# Altium footprint library PFC_Interleaved_V8.1.PcbLib: 68 footprints (part 3 of 5)
Each footprint in its own frame and in the unit in brackets; x right, y up, seen from the top. Pads: shape width x height; smd on the part's side, far side on the other; paste and mask are expansions set on the pad; w line width, h text height; cw(c..) or ccw(c..) is an arc to the next point about the centre after c.
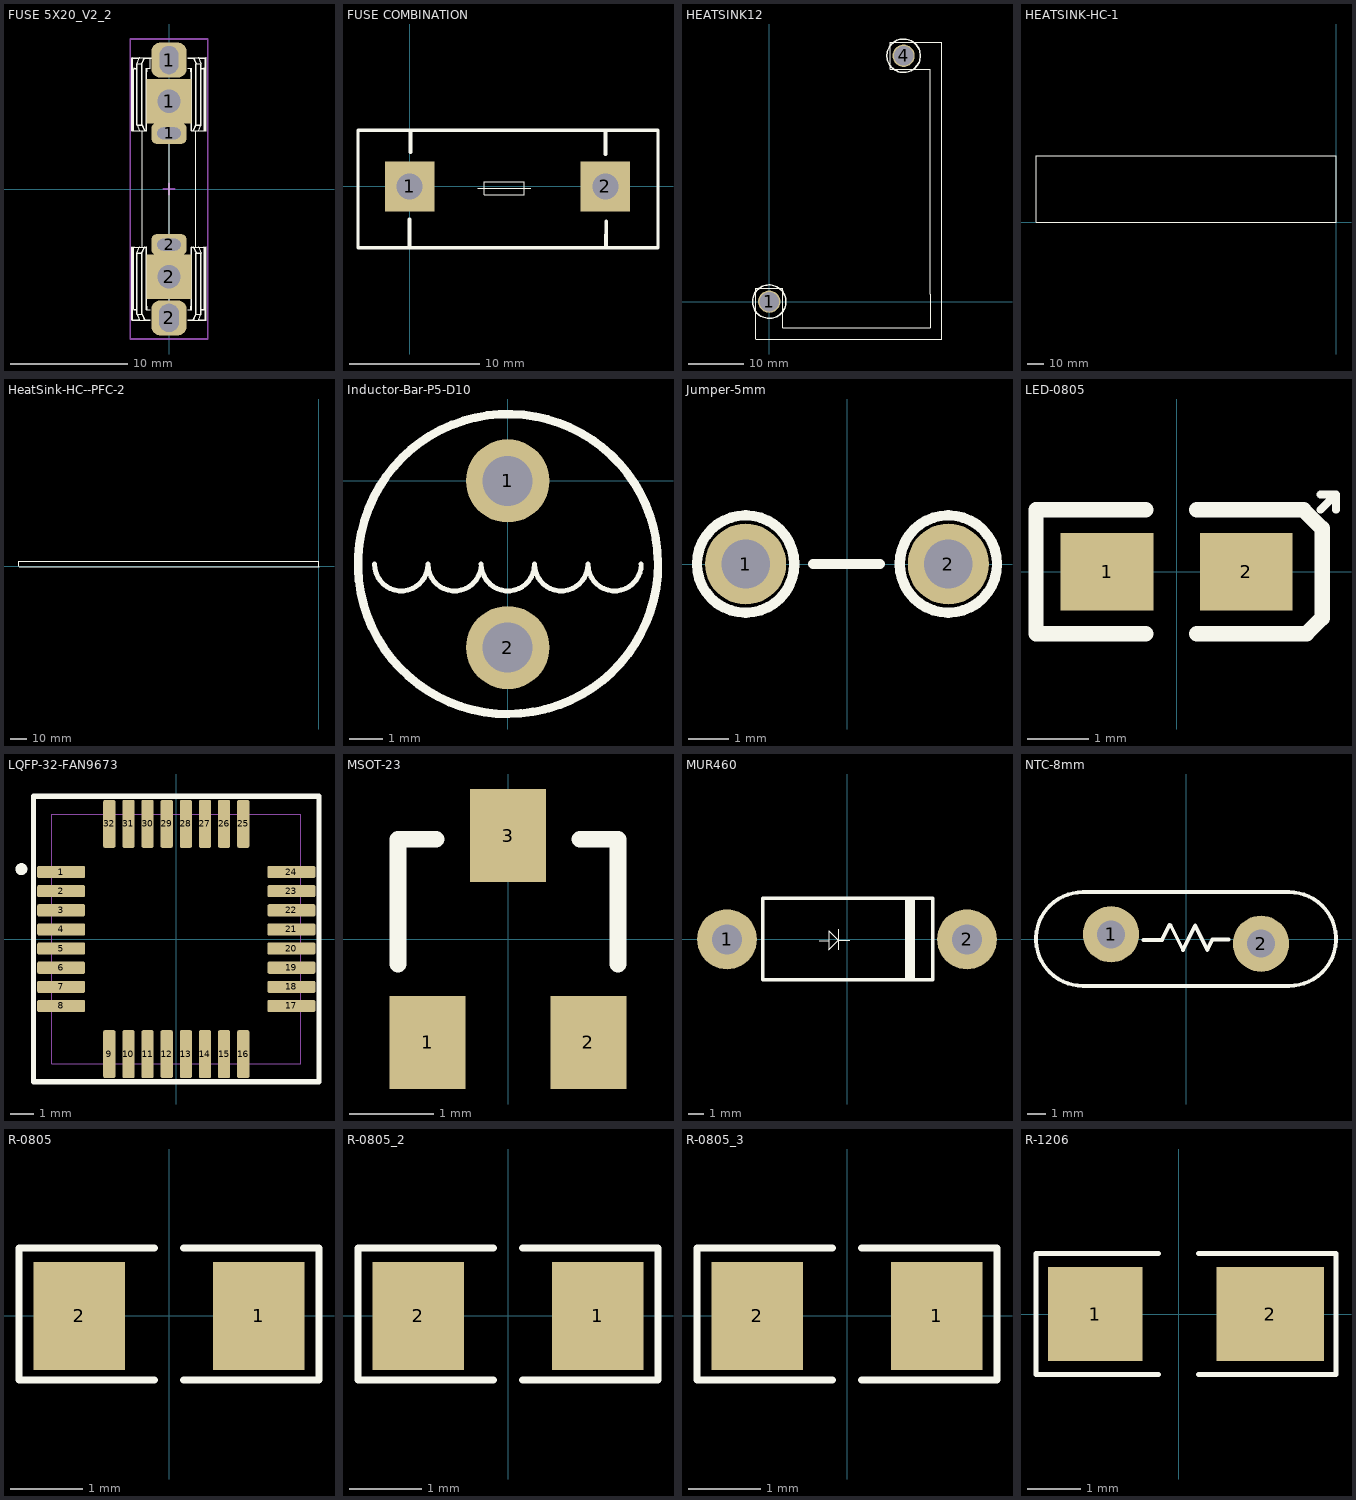
[diagram p2: the footprints below, top view; thin cyan lines are the x and y axes]

## FUSE 5X20_V2_2 [mm]
pads (6):
  rrect50% 3x1.8 hole 1 slot 2 at 0 deg: 1(0,4.75) 2(0,-4.75)
  rect 3.81x3.81 hole 2: 1(0,7.5) 2(0,-7.5)
  rrect50% 3x3 hole 1.6 slot 2.4 at 90 deg: 1(0,11)
  rrect50% 3x3 hole 1.7 slot 2.4 at 90 deg: 2(0,-11)
Top Overlay:
  drawing of 355 lines, arcs and shapes, not listed
Mechanical 15:
  lines w0.15: -0.5,0 0.5,0 ; 0,-0.5 0,0.5 ; -3.3,-12.8 -3.3,12.8 3.3,12.8 3.3,-12.8 -3.3,-12.8
3D body "User Library-Clips FC-201 with fuse 5x20.STEP": height 8.63, standoff -3.56, extent -3.173,-11.689 3.174,11.689

## FUSE COMBINATION [mm]
pads (2):
  rect 3.81x3.81 hole 2: 1(0,0) 2(15,0)
Top Overlay:
  lines w0.076: 5.217,-0.139 7.249,-0.139 9.281,-0.139 ; 5.725,-0.647 5.725,0.369 8.773,0.369 8.773,-0.647 5.725,-0.647
  lines w0.254: -3.962,-4.699 -3.962,4.301 19.038,4.301 19.038,-4.699 -3.962,-4.699
  lines w0.3: -0.015,-4.572 -0.015,-2.526 ; 0.06,2.629 0.06,4.191 ; 15.019,2.478 15.019,4.191 ; 15.065,-4.572 15.072,-2.704
3D body "User Library-Fuse Block-1.step": height 11.99, standoff -3.96, extent -4.663,-4.673 19.547,4.317

## HEATSINK12 [mm]
pads (2):
  round 4 hole 3.5: 1(0,0) 4(24.079,44.069)
Top Overlay:
  circle w0.254: c24.079,44.069 r3
  circle w0.254: c0,0 r3
  lines w0.1: -2.413,-6.7 30.875,-6.7 30.875,46.469 21.679,46.469 21.679,41.656 28.88,41.656 ; -2.413,-6.68 -2.413,2.4 2.4,2.4 2.4,-4.7 11.654,-4.7 28.88,-4.7 ; 28.875,41.631 28.875,1.3 28.88,-4.699
3D body "HeatSink-1.stp": height 32, standoff 0, extent -2.936,-6.908 31.064,47.092

## HEATSINK-HC-1 [mm]
Top Overlay:
  lines w0.1: -180,40.15 -180,0 0,0 0,40.15 ; -179.984,40.161 0,40.161
3D body "HeatSink-NSC-HC-18mm-2.step": height 120, standoff -0.05, extent -180,0 0,39.979

## HeatSink-HC--PFC-2 [mm]
Top Overlay:
  lines w0.1: -180,-0.007 0,-0.007 ; -180,0 -180,3 0,3 0,0
3D body "Heatsink3mm-PFC-Lib.step": height 45, standoff -5, extent -179.985,0 0.015,3.023

## Inductor-Bar-P5-D10 [mm]
pads (2):
  round 2.5 hole 1.5: 1(0,0) 2(0,-5)
Top Overlay:
  lines w0.15: -3.995,-2.5 ccw(c-3.195,-2.5) -2.395,-2.5 ccw(c-1.595,-2.5) -0.795,-2.5 ccw(c0.005,-2.5) 0.805,-2.5 ccw(c1.605,-2.5) 2.405,-2.5 ccw(c3.205,-2.5) 4.005,-2.5
  lines w0.254: 1.111,-6.856 cw(c0.008,-2.493) 1.227,-6.825
3D body: height 10, standoff 0, extent -4.063,-6.535 3.937,1.455

## Jumper-5mm [mm]
pads (2):
  round 2 hole 1.2: 1(-2.5,0) 2(2.5,0)
Top Overlay:
  circle w0.254: c2.5,0 r1.2
  circle w0.254: c-2.5,0 r1.2
  lines w0.254: -0.838,0 0.813,0
3D body: height 0.2, standoff -0.2, extent -2.5,-0.178 2.5,0.221

## LED-0805 [mil]
pads (2):
  rect 60x50 smd: 1(-45,0) 2(45,0)
Top Overlay:
  lines w5: 93,40 103,50 ; 93,50 103,50 ; 103,40 103,50
  lines w10: -20,-40 -91,-40 -91,40 -20,40 ; 13,-40 84,-40 94,-30 94,28 82,40 13,40
3D body "SW3dPS-led805.STEP": height 43.31, standoff -0.5, extent -41,-26 39,24

## LQFP-32-FAN9673 [mm]
pads (32):
  rrect25% 2x0.508 smd: 1(-4.815,2.8) 2(-4.815,2) 3(-4.815,1.2) 4(-4.815,0.4) 5(-4.815,-0.4) 6(-4.815,-1.2) 7(-4.815,-2) 8(-4.815,-2.8) 17(4.815,-2.8) 18(4.815,-2) 19(4.815,-1.2) 20(4.815,-0.4) 21(4.815,0.4) 22(4.815,1.2) 23(4.815,2) 24(4.815,2.8)
  rrect25% 0.508x2 smd: 9(-2.8,-4.815) 10(-2,-4.815) 11(-1.2,-4.815) 12(-0.4,-4.815) 13(0.4,-4.815) 14(1.2,-4.815) 15(2,-4.815) 16(2.8,-4.815) 25(2.8,4.815) 26(2,4.815) 27(1.2,4.815) 28(0.4,4.815) 29(-0.4,4.815) 30(-1.2,4.815) 31(-2,4.815) 32(-2.8,4.815)
Top Overlay:
  circle w0.3: c-6.477,2.921 r0.1
  lines w0.22: -5.969,-5.969 -5.969,5.969 5.969,5.969 5.969,-5.969 -5.969,-5.969
Mechanical 15:
  lines w0.05: -5.21,-5.21 5.21,-5.21 5.21,5.21 -5.21,5.21 -5.21,-5.21
3D body "TQFP-32.STEP": height 1.1, standoff 0, extent -4.5,-4.5 4.5,4.5

## MSOT-23 [mm]
pads (3):
  rect 0.9x1.1 smd: 1(-0.95,-1.223) 2(0.95,-1.223) 3(0,1.223)
Top Overlay:
  lines w0.2: -1.3,-0.297 -1.3,1.178 -0.85,1.178 ; 0.85,1.178 1.3,1.178 1.3,-0.297
3D body "SW3dPS-SOT-23.STEP": height 0.98, standoff -0.01, extent -1.448,-1.267 1.448,1.153

## MUR460 [mm]
pads (2):
  round 4 hole 2: 1(-8,0) 2(8,0)
Top Overlay:
  lines w0.08: -1.856,-0.076 -1.221,-0.076 ; -0.561,-0.686 -0.561,0.686 ; 0.176,-0.051 -0.586,-0.051 ; -0.586,-0.051 -1.221,0.584 -1.221,-0.686 -0.586,-0.051
  lines w0.254: 3.978,-2.692 3.978,2.743 ; 4.156,-2.667 4.156,2.616 ; 4.41,-2.692 4.41,2.743 ; -5.613,-2.692 -5.613,2.743 5.715,2.743 5.715,-2.692 -5.613,-2.692
3D body "User Library-1N540X.STEP": height 7.56, standoff 1.1, extent -7.674,-2.489 7.772,2.615

## NTC-8mm [mm]
pads (2):
  round 3 hole 1.5: 1(-4,0.25) 2(4,-0.25)
Top Overlay:
  lines w0.2: -2.286,-0.051 -1.283,-0.051 -0.876,0.762 ; -0.826,0.737 -0.16,-0.594 ; -0.165,-0.584 0.49,0.726 ; 0.495,0.711 1.14,-0.579 ; 1.13,-0.584 1.407,-0.03 ; 1.407,-0.025 2.286,-0.025 ; -5.5,-2.5 cw(c-5.5,0) -5.5,2.5 5.5,2.5 cw(c5.5,0) 5.5,-2.5 -5.5,-2.5
3D body: height 3, standoff 0, extent 3.5,0 4,0.5
3D body: height 3, standoff 0, extent -3.75,-0.5 -3.25,0
3D body: height 13.46, standoff 0.76, extent -6.423,-0.94 6.27,1.06

## R-0805 [mm]
pads (2):
  rect 1.27x1.5 smd: 1(1.245,0) 2(-1.245,0)
Top Overlay:
  lines w0.1: -0.203,-0.889 -2.082,-0.889 -2.082,0.94 -0.203,0.94 ; 0.203,-0.889 2.082,-0.889 2.082,0.94 0.203,0.94
3D body "0805.STEP": height 0.6, standoff 0, extent -1.016,-0.635 1.016,0.635

## R-0805_2 [mm]
pads (2):
  rect 1.27x1.5 smd: 1(1.245,0) 2(-1.245,0)
Top Overlay:
  lines w0.1: -0.203,-0.889 -2.082,-0.889 -2.082,0.94 -0.203,0.94 ; 0.203,-0.889 2.082,-0.889 2.082,0.94 0.203,0.94
3D body "0805.STEP": height 0.6, standoff 0, extent -1.016,-0.635 1.016,0.635

## R-0805_3 [mm]
pads (2):
  rect 1.27x1.5 smd: 1(1.245,0) 2(-1.245,0)
Top Overlay:
  lines w0.1: -0.203,-0.889 -2.082,-0.889 -2.082,0.94 -0.203,0.94 ; 0.203,-0.889 2.082,-0.889 2.082,0.94 0.203,0.94
3D body "0805.STEP": height 0.6, standoff 0, extent -1.016,-0.635 1.016,0.635

## R-1206 [mil]
pads (2):
  rect 70x70 smd: 1(-62,0)
  rect 80x70 smd: 2(68,0)
Top Overlay:
  lines w3.94: -15,-45 -106,-45 -106,45 -15,45 ; 15,-45 117,-45 117,45 15,45
3D body "1206.STEP": height 39.45, standoff 0, extent -62.99,-31 62.99,31.99